# Altium schematic symbol library LED,Bi-Color,Red_Grn,SMD,1206.Schlib: 1 symbol
Pins are listed as number, name and electrical type; pins without a type are passive.

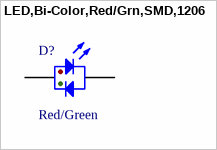
[diagram p0: symbol LED,Bi-Color,Red/Grn,SMD,1206]

## LED,Bi-Color,Red/Grn,SMD,1206
designator D?, comment Red/Green
Green, Red 570nm Green, 630nm Red LED Indication - Discrete 2.1V Green, 1.95V Red 1206 (3216 Metric)
pins: 1 A, 2 K